# Altium schematic symbol library U_IRS2127.SchLib: 1 symbol
Pins are listed as number, name and electrical type; pins without a type are passive.

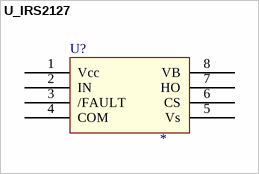
[diagram p0: symbol U_IRS2127]

## U_IRS2127
designator U?
pins: 1 Vcc, 2 IN, 3 /FAULT, 4 COM, 5 Vs, 6 CS, 7 HO, 8 VB